# EAGLE library part FTDI_TTL-232R_CABLE (library !Treadmill)
USB to UART converter Cable
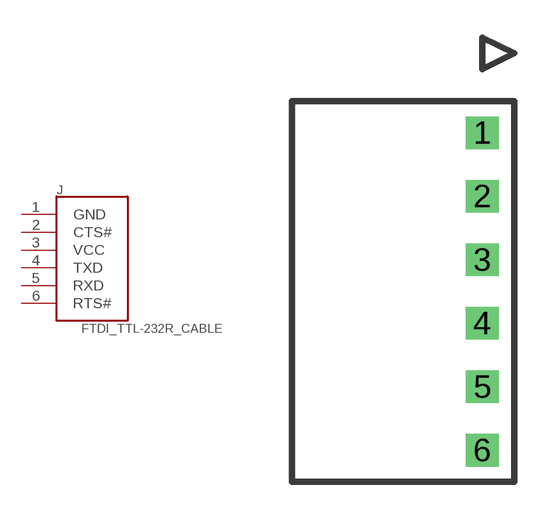
[diagram p7: symbol with the pads of FTDI_CABLE_6X1; footprint FTDI_CABLE_6X1]

Designator prefix J

## FTDI_TTL-232R_CABLE  [FTDI_CABLE_6X1]
1  GND  pwr
2  CTS#  in
3  VCC  pwr
4  TXD  out
5  RXD  in
6  RTS#  out

## Footprint FTDI_CABLE_6X1 (pad centres in mm)
drill 0.8 square: 1 0,6.35; 2 0,3.81; 3 0,1.27; 4 0,-1.27; 5 0,-3.81; 6 0,-6.35